# Altium footprint library AL8861Y-13.PcbLib: 1 footprints
Each footprint in its own frame and in the unit in brackets; x right, y up, seen from the top. Pads: shape width x height; smd on the part's side, far side on the other; paste and mask are expansions set on the pad; w line width, h text height; cw(c..) or ccw(c..) is an arc to the next point about the centre after c.
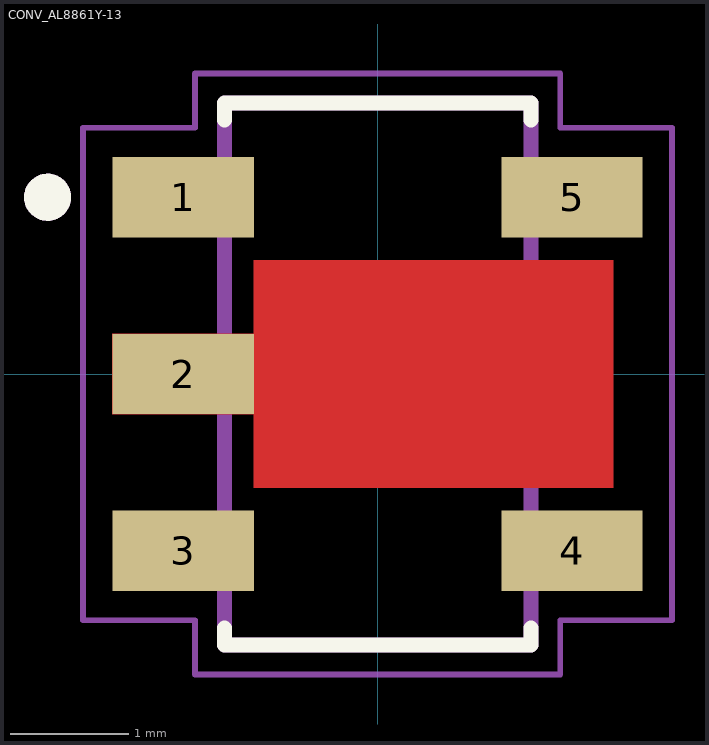
[diagram p0: the footprint, top view; thin cyan lines are the x and y axes]

## CONV_AL8861Y-13 [mm]
pads (5):
  rect 1.2x0.68 smd: 1(-1.65,1.5) 3(-1.65,-1.5) 4(1.65,-1.5) 5(1.65,1.5)
  rect 1.2x0.68 smd paste-2 mask+0: 2(-1.65,0)
Top Layer:
  region: 2,-0.965 -1.05,-0.965 -1.05,-0.34 -2.25,-0.34 -2.25,0.34 -1.05,0.34 -1.05,0.965 2,0.965
Top Overlay:
  circle w0.2: c-2.8,1.5 r0.1
  lines w0.127: -1.3,-2.154 -1.3,-2.3 1.3,-2.3 1.3,-2.154 ; -1.3,2.154 -1.3,2.3 1.3,2.3 1.3,2.154
Top Paste:
  region: 2,-0.965 -1.05,-0.965 -1.05,-0.34 -2.25,-0.34 -2.25,0.34 -1.05,0.34 -1.05,0.965 2,0.965
Top Solder:
  region: 2.1,-1.065 -1.15,-1.065 -1.15,-0.44 -2.35,-0.44 -2.35,0.44 -1.15,0.44 -1.15,1.065 2.1,1.065
Mechanical 13:
  circle w0.2: c-2.8,1.5 r0.1
  lines w0.127: -1.3,-2.3 1.3,-2.3 1.3,2.3 -1.3,2.3 -1.3,-2.3
Mechanical 15:
  lines w0.05: -2.5,-2.09 -1.55,-2.09 -1.55,-2.55 1.55,-2.55 1.55,-2.09 2.5,-2.09 2.5,2.09 1.55,2.09 1.55,2.55 -1.55,2.55 -1.55,2.09 -2.5,2.09 -2.5,-2.09